# Altium footprint library WE-PD2.PcbLib: 4 footprints
Each footprint in its own frame and in the unit in brackets; x right, y up, seen from the top. Pads: shape width x height; smd on the part's side, far side on the other; paste and mask are expansions set on the pad; w line width, h text height; cw(c..) or ccw(c..) is an arc to the next point about the centre after c.
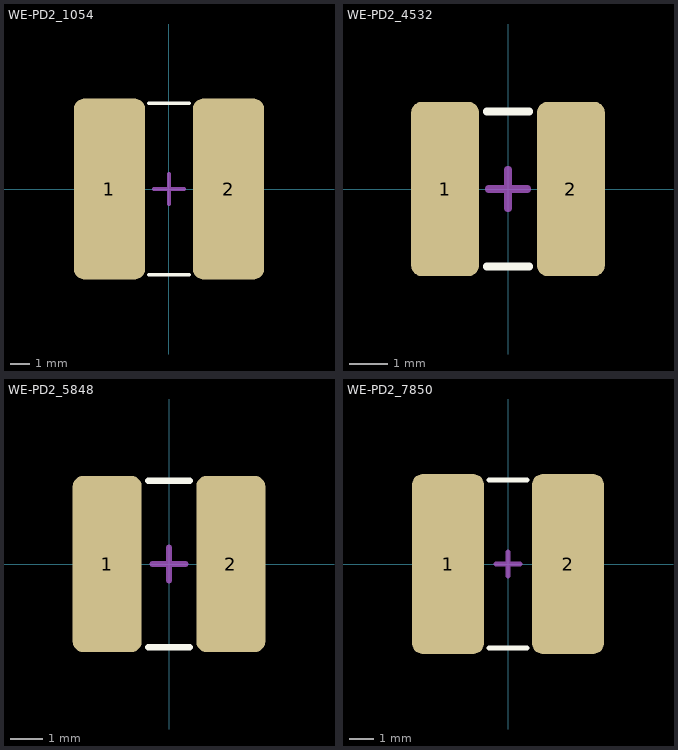
[diagram p0: the footprints below, top view; thin cyan lines are the x and y axes]

## WE-PD2_1054 [mm] "SMD Power Inductor, body 10x9"
height 5.4
pads (2):
  rrect30% 3.75x9.5 smd: 1(-3.125,0) 2(3.125,0)
Top Overlay:
  lines w0.2: -1.05,-4.5 1.05,-4.5 ; -1.05,4.5 1.05,4.5
Mechanical 15:
  lines w0.2: -0.8,0 0.8,0 ; 0,-0.8 0,0.8
3D body "IndPD2_1054_744776xx.stp": height 5.43, standoff 0.03, extent -5.044,-4.5 5.044,4.5

## WE-PD2_4532 [mm] "SMD Power Inductor, body 4.5x4.0"
height 3.2
pads (2):
  rrect30% 1.75x4.5 smd: 1(-1.625,0) 2(1.625,0)
Top Overlay:
  lines w0.2: -0.55,-2 0.55,-2 ; -0.55,2 0.55,2
Mechanical 15:
  lines w0.2: -0.5,0 0.5,0 ; 0,-0.5 0,0.5
3D body "IndPD2_4532_744773xx.stp": height 3.23, standoff 0.05, extent -2.25,-2 2.25,2

## WE-PD2_5848 [mm] "SMD Power Inductor, body 5.8x5.2"
height 4.5
pads (2):
  rrect30% 2.15x5.5 smd: 1(-1.925,0) 2(1.925,0)
Top Overlay:
  lines w0.2: -0.65,-2.6 0.65,-2.6 ; -0.65,2.6 0.65,2.6
Mechanical 15:
  lines w0.2: -0.5,0 0.5,0 ; 0,-0.5 0,0.5
3D body "IndPD2_5848_744774xx.stp": height 4.51, standoff 0.01, extent -2.898,-2.6 2.889,2.6

## WE-PD2_7850 [mm] "SMD Power Inductor, body 7.8x7.0"
height 5
pads (2):
  rrect30% 3x7.5 smd: 1(-2.5,0) 2(2.5,0)
Top Overlay:
  lines w0.2: -0.8,-3.5 0.8,-3.5 ; -0.8,3.5 0.8,3.5
Mechanical 15:
  lines w0.2: -0.5,0 0.5,0 ; 0,-0.5 0,0.5
3D body "IndPD2_7850_744775xx.stp": height 4.91, standoff -0.04, extent -3.813,-3.5 3.813,3.5